# EAGLE library part TPS62730 (library sf-keyglove)
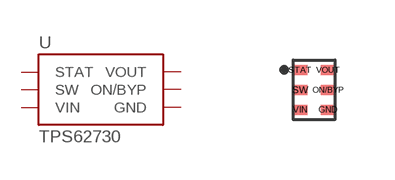
[diagram p15: symbol with the pads of TPS62730; footprint TPS62730]

Designator prefix U

## TPS62730  [TPS62730]
GND  GND  pwr
ON/BYP  ON/BYP  in
STAT  STAT  out
SW  SW
VIN  VIN  pwr
VOUT  VOUT  in

## Footprint TPS62730 (pad centres in mm)
smd 0.35 x 0.25: GND 0.35,-0.5; ON/BYP 0.35,0; STAT -0.35,0.5; SW -0.35,0; VIN -0.35,-0.5; VOUT 0.35,0.5